# EAGLE library part RASPBERRY-PI-CM (library arducorder-mini)
Raspberry Pi Compute Module in a 200-pin SO-DIMM package
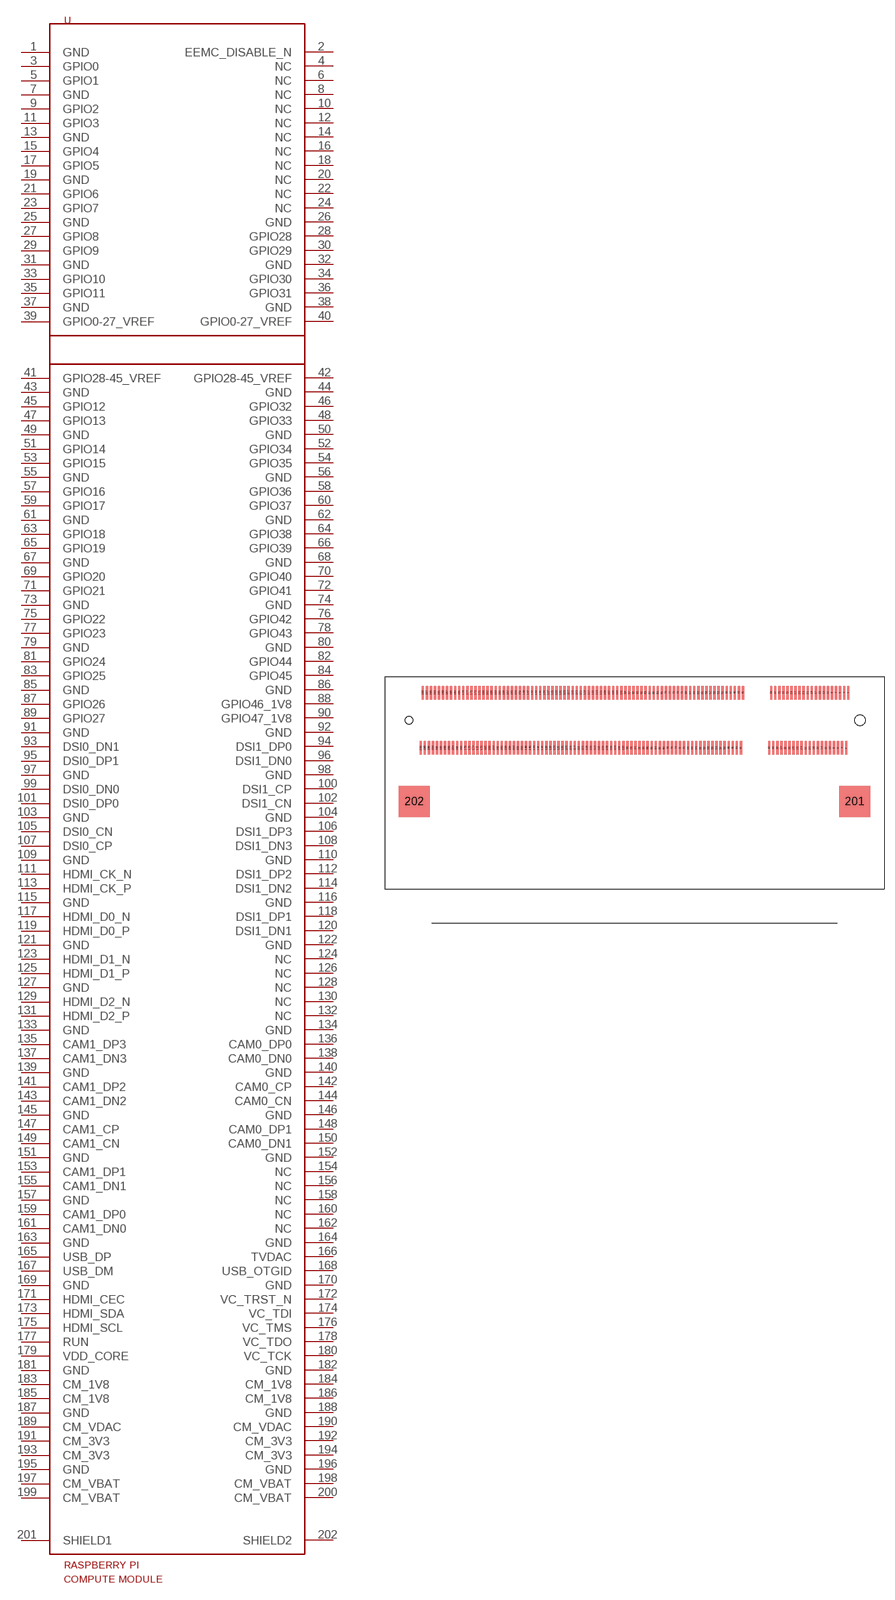
[diagram p27: symbol with the pads of FCI-SODIMM-10116658-052FSLF; footprint FCI-SODIMM-10116658-052FSLF]

Designator prefix -

## RASPBERRY-PI-CM  [FCI-SODIMM-10116658-052FSLF]
1  GND
2  EEMC_DISABLE_N
3  GPIO0
4  NC
5  GPIO1
6  NC
7  GND
8  NC
9  GPIO2
10  NC
11  GPIO3
12  NC
13  GND
14  NC
15  GPIO4
16  NC
17  GPIO5
18  NC
19  GND
20  NC
21  GPIO6
22  NC
23  GPIO7
24  NC
25  GND
26  GND
27  GPIO8
28  GPIO28
29  GPIO9
30  GPIO29
31  GND
32  GND
33  GPIO10
34  GPIO30
35  GPIO11
36  GPIO31
37  GND
38  GND
39  GPIO0-27_VREF
40  GPIO0-27_VREF
41  GPIO28-45_VREF
42  GPIO28-45_VREF
43  GND
44  GND
45  GPIO12
46  GPIO32
47  GPIO13
48  GPIO33
49  GND
50  GND
51  GPIO14
52  GPIO34
53  GPIO15
54  GPIO35
55  GND
56  GND
57  GPIO16
58  GPIO36
59  GPIO17
60  GPIO37
61  GND
62  GND
63  GPIO18
64  GPIO38
65  GPIO19
66  GPIO39
67  GND
68  GND
69  GPIO20
70  GPIO40
71  GPIO21
72  GPIO41
73  GND
74  GND
75  GPIO22
76  GPIO42
77  GPIO23
78  GPIO43
79  GND
80  GND
81  GPIO24
82  GPIO44
83  GPIO25
84  GPIO45
85  GND
86  GND
87  GPIO26
88  GPIO46_1V8
89  GPIO27
90  GPIO47_1V8
91  GND
92  GND
93  DSI0_DN1
94  DSI1_DP0
95  DSI0_DP1
96  DSI1_DN0
97  GND
98  GND
99  DSI0_DN0
100  DSI1_CP
101  DSI0_DP0
102  DSI1_CN
103  GND
104  GND
105  DSI0_CN
106  DSI1_DP3
107  DSI0_CP
108  DSI1_DN3
109  GND
110  GND
111  HDMI_CK_N
112  DSI1_DP2
113  HDMI_CK_P
114  DSI1_DN2
115  GND
116  GND
117  HDMI_D0_N
118  DSI1_DP1
119  HDMI_D0_P
120  DSI1_DN1
121  GND
122  GND
123  HDMI_D1_N
124  NC
125  HDMI_D1_P
126  NC
127  GND
128  NC
129  HDMI_D2_N
130  NC
131  HDMI_D2_P
132  NC
133  GND
134  GND
135  CAM1_DP3
136  CAM0_DP0
137  CAM1_DN3
138  CAM0_DN0
139  GND
140  GND
141  CAM1_DP2
142  CAM0_CP
143  CAM1_DN2
144  CAM0_CN
145  GND
146  GND
147  CAM1_CP
148  CAM0_DP1
149  CAM1_CN
150  CAM0_DN1
151  GND
152  GND
153  CAM1_DP1
154  NC
155  CAM1_DN1
156  NC
157  GND
158  NC
159  CAM1_DP0
160  NC
161  CAM1_DN0
162  NC
163  GND
164  GND
165  USB_DP
166  TVDAC
167  USB_DM
168  USB_OTGID
169  GND
170  GND
171  HDMI_CEC
172  VC_TRST_N
173  HDMI_SDA
174  VC_TDI
175  HDMI_SCL
176  VC_TMS
177  RUN
178  VC_TDO
179  VDD_CORE
180  VC_TCK
181  GND
182  GND
183  CM_1V8
184  CM_1V8
185  CM_1V8
186  CM_1V8
187  GND
188  GND
189  CM_VDAC
190  CM_VDAC
191  CM_3V3
192  CM_3V3
193  CM_3V3
194  CM_3V3
195  GND
196  GND
197  CM_VBAT
198  CM_VBAT
199  CM_VBAT
200  CM_VBAT
201  SHIELD1
202  SHIELD2

## Footprint FCI-SODIMM-10116658-052FSLF (pad centres in mm)
smd 0.35 x 2: 1 31.65,4.1; 2 31.35,-4.1; 3 31.05,4.1; 4 30.75,-4.1; 5 30.45,4.1; 6 30.15,-4.1; 7 29.85,4.1; 8 29.55,-4.1; 9 29.25,4.1; 10 28.95,-4.1; 11 28.65,4.1; 12 28.35,-4.1; 13 28.05,4.1; 14 27.75,-4.1; 15 27.45,4.1; 16 27.15,-4.1; 17 26.85,4.1; 18 26.55,-4.1; 19 26.25,4.1; 20 25.95,-4.1; 21 25.65,4.1; 22 25.35,-4.1; 23 25.05,4.1; 24 24.75,-4.1; 25 24.45,4.1; 26 24.15,-4.1; 27 23.85,4.1; 28 23.55,-4.1; 29 23.25,4.1; 30 22.95,-4.1; 31 22.65,4.1; 32 22.35,-4.1; 33 22.05,4.1; 34 21.75,-4.1; 35 21.45,4.1; 36 21.15,-4.1; 37 20.85,4.1; 38 20.55,-4.1; 39 20.25,4.1; 40 19.95,-4.1; 41 16.05,4.1; 42 15.75,-4.1; 43 15.45,4.1; 44 15.15,-4.1; 45 14.85,4.1; 46 14.55,-4.1; 47 14.25,4.1; 48 13.95,-4.1; 49 13.65,4.1; 50 13.35,-4.1; 51 13.05,4.1; 52 12.75,-4.1; 53 12.45,4.1; 54 12.15,-4.1; 55 11.85,4.1; 56 11.55,-4.1; 57 11.25,4.1; 58 10.95,-4.1; 59 10.65,4.1; 60 10.35,-4.1; 61 10.05,4.1; 62 9.75,-4.1; 63 9.45,4.1; 64 9.15,-4.1; 65 8.85,4.1; 66 8.55,-4.1; 67 8.25,4.1; 68 7.95,-4.1; 69 7.65,4.1; 70 7.35,-4.1; 71 7.05,4.1; 72 6.75,-4.1; 73 6.45,4.1; 74 6.15,-4.1; 75 5.85,4.1; 76 5.55,-4.1; 77 5.25,4.1; 78 4.95,-4.1; 79 4.65,4.1; 80 4.35,-4.1; 81 4.05,4.1; 82 3.75,-4.1; 83 3.45,4.1; 84 3.15,-4.1; 85 2.85,4.1; 86 2.55,-4.1; 87 2.25,4.1; 88 1.95,-4.1; 89 1.65,4.1; 90 1.35,-4.1; 91 1.05,4.1; 92 0.75,-4.1; 93 0.45,4.1; 94 0.15,-4.1; 95 -0.15,4.1; 96 -0.45,-4.1; 97 -0.75,4.1; 98 -1.05,-4.1; 99 -1.35,4.1; 100 -1.65,-4.1; 101 -1.95,4.1; 102 -2.25,-4.1; 103 -2.55,4.1; 104 -2.85,-4.1; 105 -3.15,4.1; 106 -3.45,-4.1; 107 -3.75,4.1; 108 -4.05,-4.1; 109 -4.35,4.1; 110 -4.65,-4.1; 111 -4.95,4.1; 112 -5.25,-4.1; 113 -5.55,4.1; 114 -5.85,-4.1; 115 -6.15,4.1; 116 -6.45,-4.1; 117 -6.75,4.1; 118 -7.05,-4.1; 119 -7.35,4.1; 120 -7.65,-4.1; 121 -7.95,4.1; 122 -8.25,-4.1; 123 -8.55,4.1; 124 -8.85,-4.1; 125 -9.15,4.1; 126 -9.45,-4.1; 127 -9.75,4.1; 128 -10.05,-4.1; 129 -10.35,4.1; 130 -10.65,-4.1; 131 -10.95,4.1; 132 -11.25,-4.1; 133 -11.55,4.1; 134 -11.85,-4.1; 135 -12.15,4.1; 136 -12.45,-4.1; 137 -12.75,4.1; 138 -13.05,-4.1; 139 -13.35,4.1; 140 -13.65,-4.1; 141 -13.95,4.1; 142 -14.25,-4.1; 143 -14.55,4.1; 144 -14.85,-4.1; 145 -15.15,4.1; 146 -15.45,-4.1; 147 -15.75,4.1; 148 -16.05,-4.1; 149 -16.35,4.1; 150 -16.65,-4.1; 151 -16.95,4.1; 152 -17.25,-4.1; 153 -17.55,4.1; 154 -17.85,-4.1; 155 -18.15,4.1; 156 -18.45,-4.1; 157 -18.75,4.1; 158 -19.05,-4.1; 159 -19.35,4.1; 160 -19.65,-4.1; 161 -19.95,4.1; 162 -20.25,-4.1; 163 -20.55,4.1; 164 -20.85,-4.1; 165 -21.15,4.1; 166 -21.45,-4.1; 167 -21.75,4.1; 168 -22.05,-4.1; 169 -22.35,4.1; 170 -22.65,-4.1; 171 -22.95,4.1; 172 -23.25,-4.1; 173 -23.55,4.1; 174 -23.85,-4.1; 175 -24.15,4.1; 176 -24.45,-4.1; 177 -24.75,4.1; 178 -25.05,-4.1; 179 -25.35,4.1; 180 -25.65,-4.1; 181 -25.95,4.1; 182 -26.25,-4.1; 183 -26.55,4.1; 184 -26.85,-4.1; 185 -27.15,4.1; 186 -27.45,-4.1; 187 -27.75,4.1; 188 -28.05,-4.1; 189 -28.35,4.1; 190 -28.65,-4.1; 191 -28.95,4.1; 192 -29.25,-4.1; 193 -29.55,4.1; 194 -29.85,-4.1; 195 -30.15,4.1; 196 -30.45,-4.1; 197 -30.75,4.1; 198 -31.05,-4.1; 199 -31.35,4.1; 200 -31.65,-4.1
smd 4.6 x 4.6: 201 32.6,-12; 202 -32.6,-12
hole 1.6 at 33.4,0
hole 1.1 at -33.4,0